# EAGLE library part 6250XX21721_62504421721 (library con-wurth)
WR-BHD 2.00 mm Male Angled Box Header KIND PROPERTIES: Pitch 2 mm Gender:Male MATERIAL PROPERTIES: Insulator Material:PBT Insulator Flammability Rating UL94 V-0 Insulator Color:Black Contact Material :Copper Alloy Contact Plating :Gold Contact Type: Stamped GENERAL INFORMATION: Operating Temperature:-40 °C up to +125 °C Compliance:RoHS Working Voltage: 250 V (AC) Withstanding Voltage:500 V (AC) Contact Resistance: 20 mΩ Insulation Resistance:1000 MΩ PACKAGING PROPERTIES Packaging :Tray <https://www.we-online.de/katalog/media/o32929v209%20Family_WR-BHD_6250xx21721.jpg> Details see: https://www.we-online.de/katalog/en/em/BHD_2_00_MALE_ANGLED_BOX_HEADER_6250XX21721 Updated by Yingchun,Shan 2019-11-04 2019 (C) Würth Elektronik
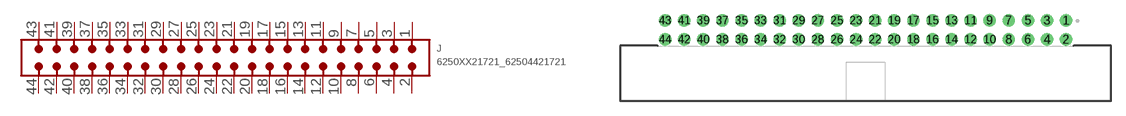
[diagram p27: symbol with the pads of 62504421721; footprint 62504421721]

Designator prefix J

## 6250XX21721_62504421721 (CONTACT-RESISTANCE: 20mOhm; DATASHEET-URL: https://www.we-online.com/redexpert/spec/62504421721?ae; GENDER: Male; IR: 2A; LENGTH: 51.25mm; MOUNT: THT; PACKAGING: Tray; PART-NUMBER: 62504421721; PINS: 44; PITCH: 2mm; TYPE: Angled; VALUE: 62504421721; WORKING-VOLTAGE: 250V(AC))  [62504421721]
1  1  pas
2  2  pas
3  3  pas
4  4  pas
5  5  pas
6  6  pas
7  7  pas
8  8  pas
9  9  pas
10  10  pas
11  11  pas
12  12  pas
13  13  pas
14  14  pas
15  15  pas
16  16  pas
17  17  pas
18  18  pas
19  19  pas
20  20  pas
21  21  pas
22  22  pas
23  23  pas
24  24  pas
25  25  pas
26  26  pas
27  27  pas
28  28  pas
29  29  pas
30  30  pas
31  31  pas
32  32  pas
33  33  pas
34  34  pas
35  35  pas
36  36  pas
37  37  pas
38  38  pas
39  39  pas
40  40  pas
41  41  pas
42  42  pas
43  43  pas
44  44  pas

## Footprint 62504421721 (pad centres in mm)
WR-BHD 2.00 mm Male Angled Box Header,44 pins
drill 0.8: 1 21,5.55; 2 21,3.55; 3 19,5.55; 4 19,3.55; 5 17,5.55; 6 17,3.55; 7 15,5.55; 8 15,3.55; 9 13,5.55; 10 13,3.55; 11 11,5.55; 12 11,3.55; 13 9,5.55; 14 9,3.55; 15 7,5.55; 16 7,3.55; 17 5,5.55; 18 5,3.55; 19 3,5.55; 20 3,3.55; 21 1,5.55; 22 1,3.55; 23 -1,5.55; 24 -1,3.55; 25 -3,5.55; 26 -3,3.55; 27 -5,5.55; 28 -5,3.55; 29 -7,5.55; 30 -7,3.55; 31 -9,5.55; 32 -9,3.55; 33 -11,5.55; 34 -11,3.55; 35 -13,5.55; 36 -13,3.55; 37 -15,5.55; 38 -15,3.55; 39 -17,5.55; 40 -17,3.55; 41 -19,5.55; 42 -19,3.55; 43 -21,5.55; 44 -21,3.55